# EAGLE library part MCP2515-E/ST (library debauer_ics)
CAN CONTROLLER, SPI, 10MA
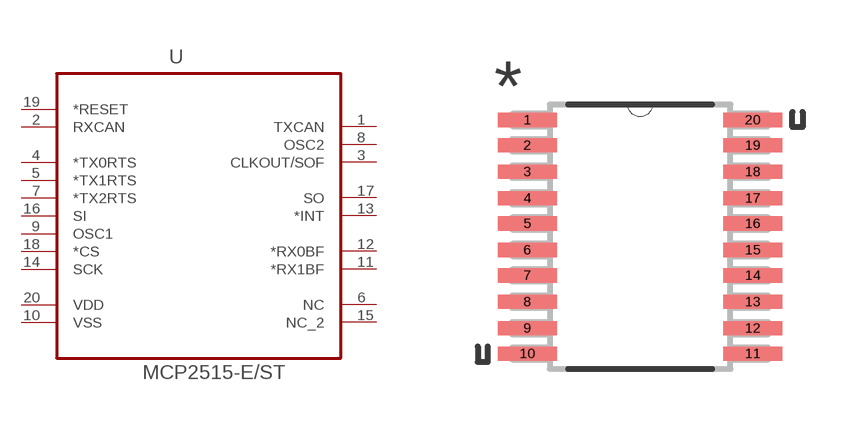
[diagram p28: symbol with the pads of SOP65P640X120-20N; footprint SOP65P640X120-20N]

Designator prefix U

## MCP2515-E/ST (MPN: MCP2515-E/ST; OC_FARNELL: 1605566; OC_NEWARK: 68H9365; PACKAGE: 20TSSOP; SUPPLIER: Microchip)  [SOP65P640X120-20N]
1  TXCAN  out
2  RXCAN  in
3  CLKOUT/SOF  out
4  *TX0RTS
5  *TX1RTS
6  NC  nc
7  *TX2RTS
8  OSC2  out
9  OSC1  in
10  VSS  pas
11  *RX1BF  out
12  *RX0BF  out
13  *INT  out
14  SCK  in
15  NC_2  nc
16  SI  in
17  SO  out
18  *CS  in
19  *RESET  in
20  VDD  pwr

## Footprint SOP65P640X120-20N (pad centres in mm)
smd 1.473 x 0.356: 1 -2.819,2.921; 2 -2.819,2.286; 3 -2.819,1.626; 4 -2.819,0.965; 5 -2.819,0.33; 6 -2.819,-0.33; 7 -2.819,-0.965; 8 -2.819,-1.626; 9 -2.819,-2.286; 10 -2.819,-2.921; 11 2.819,-2.921; 12 2.819,-2.286; 13 2.819,-1.626; 14 2.819,-0.965; 15 2.819,-0.33; 16 2.819,0.33; 17 2.819,0.965; 18 2.819,1.626; 19 2.819,2.286; 20 2.819,2.921